# Altium footprint library BlowFuse.PcbLib: 3 footprints
Each footprint in its own frame and in the unit in brackets; x right, y up, seen from the top. Pads: shape width x height; smd on the part's side, far side on the other; paste and mask are expansions set on the pad; w line width, h text height; cw(c..) or ccw(c..) is an arc to the next point about the centre after c.
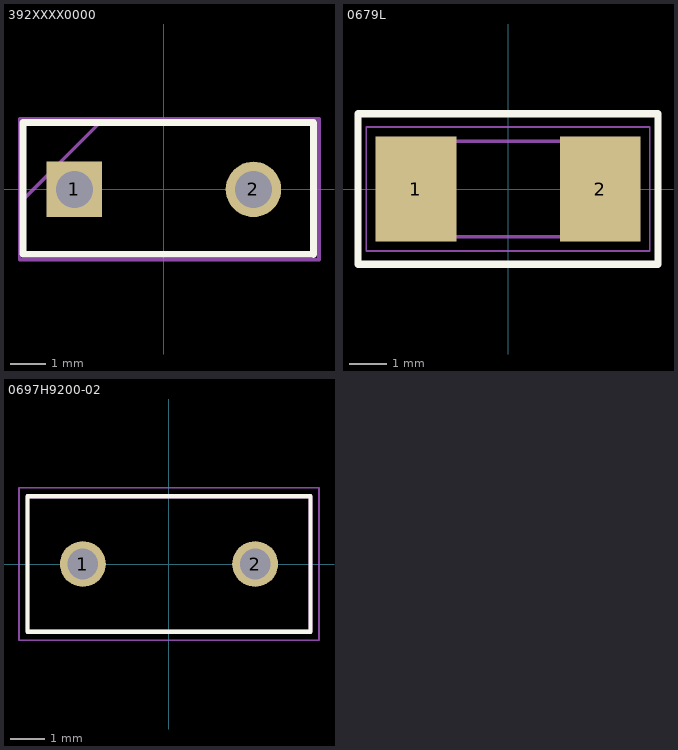
[diagram p0: the footprints below, top view; thin cyan lines are the x and y axes]

## 392XXXX0000 [mm] "LittleFuse 392 Series"
pads (2):
  rect 1.575x1.575 hole 1.05: 1(-2.54,0)
  round 1.575 hole 1.05: 2(2.54,0)
Top Overlay:
  lines w0.2: -4,-1.83 4.25,-1.849 4.25,1.9 -4,1.9 -4,-1.83
Mechanical 13:
  lines w0.1: -4.083,-0.373 -1.71,2 ; -4.1,-2 -4.1,2 4.4,2 4.4,-2 -4.1,-2
Mechanical 15:
  lines w0.05: -4.115,-1.98 -4.115,2.02 4.385,2.02 4.385,-1.98 -4.115,-1.98
3D body "0697H9200-02.step": height 8.1, standoff -11, extent -4.04,-1.98 4.31,2.02

## 0679L [mm] "FUSE BRD MNT 2SMD"
pads (2):
  rect 2.15x2.8 smd: 1(-2.455,0) 2(2.455,0)
Top Overlay:
  lines w0.2: -4,-2 4,-2 4,2 -4,2 -4,-1.25 -4,-2
Mechanical 13:
  lines w0.1: -3.05,-1.27 3.05,-1.27 3.05,1.27 -3.05,1.27 -3.05,-1.27
Mechanical 15:
  lines w0.05: -3.78,-1.65 3.78,-1.65 3.78,1.65 -3.78,1.65 -3.78,-1.65
3D body "0679L2000-05.stp": height 2.57, standoff 0.03, extent -3.052,-1.393 3.048,1.397

## 0697H9200-02 [mm] "20 A 350 V AC 72 V DC Fuse Board Mount (Cartridge Style Excluded) Through Hole Radial, Box"
pads (2):
  round 1.35 hole 0.9: 1(-2.54,0) 2(2.54,0)
Top Overlay:
  lines w0.127: -4.175,-2 4.175,-2 4.175,2 -4.175,2 -4.175,-2
Mechanical 13:
  lines w0.127: -4.175,-2 -4.175,2 4.175,2 4.175,-2 -4.175,-2
Mechanical 15:
  lines w0.05: -4.425,-2.25 4.425,-2.25 4.425,2.25 -4.425,2.25 -4.425,-2.25
3D body "0697H9200-02.step": height 8.1, standoff -11, extent -4.175,-2 4.175,2